# Altium footprint library SAMTEC_MECF-40-01-X-DV-WT.PcbLib: 1 footprints
Each footprint in its own frame and in the unit in brackets; x right, y up, seen from the top. Pads: shape width x height; smd on the part's side, far side on the other; paste and mask are expansions set on the pad; w line width, h text height; cw(c..) or ccw(c..) is an arc to the next point about the centre after c.
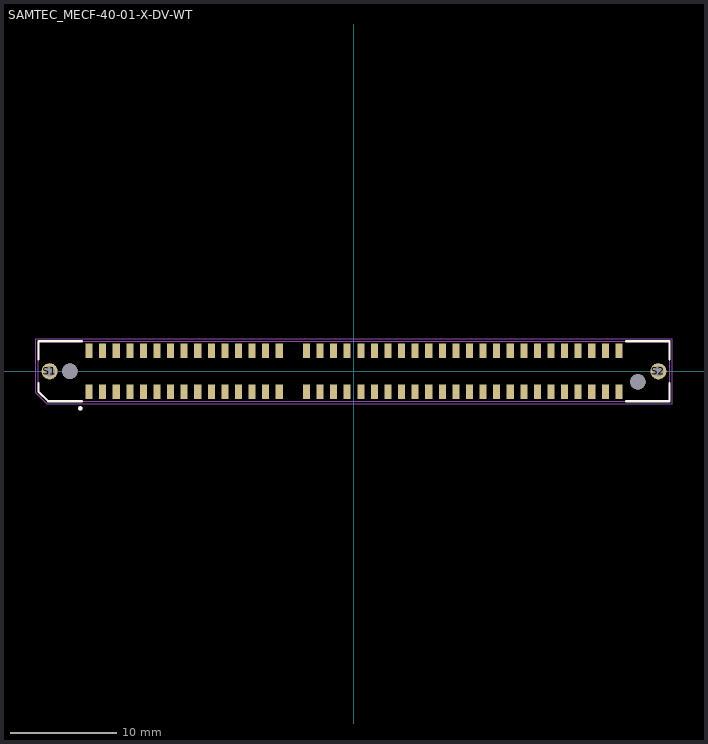
[diagram p0: the footprint, top view; thin cyan lines are the x and y axes]

## SAMTEC_MECF-40-01-X-DV-WT [mm]
pads (82):
  rect 0.66x1.35 smd: 01(-24.765,-1.905) 02(-24.765,1.905) 03(-23.495,-1.905) 04(-23.495,1.905) 05(-22.225,-1.905) 06(-22.225,1.905) 07(-20.955,-1.905) 08(-20.955,1.905) 09(-19.685,-1.905) 10(-19.685,1.905) 11(-18.415,-1.905) 12(-18.415,1.905) 13(-17.145,-1.905) 14(-17.145,1.905) 15(-15.875,-1.905) 16(-15.875,1.905) 17(-14.605,-1.905) 18(-14.605,1.905) 19(-13.335,-1.905) 20(-13.335,1.905) 21(-12.065,-1.905) 22(-12.065,1.905) 23(-10.795,-1.905) 24(-10.795,1.905) 25(-9.525,-1.905) 26(-9.525,1.905) 27(-8.255,-1.905) 28(-8.255,1.905) 29(-6.985,-1.905) 30(-6.985,1.905) 31(-4.445,-1.905) 32(-4.445,1.905) 33(-3.175,-1.905) 34(-3.175,1.905) 35(-1.905,-1.905) 36(-1.905,1.905) 37(-0.635,-1.905) 38(-0.635,1.905) 39(0.635,-1.905) 40(0.635,1.905) 41(1.905,-1.905) 42(1.905,1.905) 43(3.175,-1.905) 44(3.175,1.905) 45(4.445,-1.905) 46(4.445,1.905) 47(5.715,-1.905) 48(5.715,1.905) 49(6.985,-1.905) 50(6.985,1.905) 51(8.255,-1.905) 52(8.255,1.905) 53(9.525,-1.905) 54(9.525,1.905) 55(10.795,-1.905) 56(10.795,1.905) 57(12.065,-1.905) 58(12.065,1.905) 59(13.335,-1.905) 60(13.335,1.905) 61(14.605,-1.905) 62(14.605,1.905) 63(15.875,-1.905) 64(15.875,1.905) 65(17.145,-1.905) 66(17.145,1.905) 67(18.415,-1.905) 68(18.415,1.905) 69(19.685,-1.905) 70(19.685,1.905) 71(20.955,-1.905) 72(20.955,1.905) 73(22.225,-1.905) 74(22.225,1.905) 75(23.495,-1.905) 76(23.495,1.905) 77(24.765,-1.905) 78(24.765,1.905)
  round 1.508 hole 1: S1(-28.45,0) S2(28.45,0)
  round 1.45 hole 1.45 unplated: ""(-26.55,0) ""(26.54,-1)
Top Overlay:
  circle w0.2: c-25.585,-3.464 r0.1
  lines w0.2: -29.49,-1.1 -29.49,-1.902 -28.592,-2.8 -25.445,-2.8 ; -29.49,1.1 -29.49,2.8 -25.445,2.8 ; 25.445,-2.8 29.49,-2.8 29.49,-1.1 ; 25.445,2.8 29.49,2.8 29.49,1.1
Top Paste:
  circle w0.98: c-28.45,0 r0.49
  circle w0.98: c28.45,0 r0.49
Mechanical 13:
  circle w0.2: c-25.585,-3.464 r0.1
  lines w0.1: -29.49,-1.902 -29.49,2.8 29.49,2.8 29.49,-2.8 -28.592,-2.8 -29.49,-1.902
Mechanical 15:
  lines w0.05: -29.74,-2.027 -29.74,3.05 29.74,3.05 29.74,-3.05 -28.717,-3.05 -29.74,-2.027